# EAGLE library part BC-118 (library MCUs)
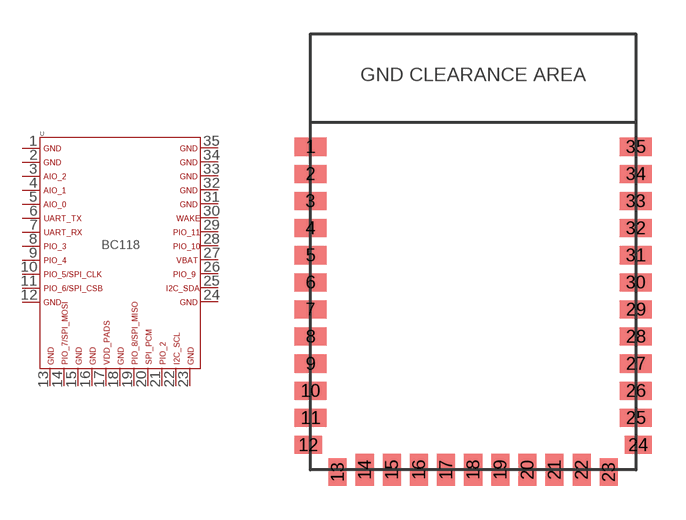
[diagram p0: symbol with the pads of BC-118; footprint BC-118]

Designator prefix U

## BC-118  [BC-118]
1  1  pas
2  2  pas
3  3  pas
4  4  pas
5  5  pas
6  6  pas
7  7  pas
8  8  pas
9  9  pas
10  10  pas
11  11  pas
12  12  pas
13  13  pas
14  14  pas
15  15  pas
16  16  pas
17  17  pas
18  18  pas
19  19  pas
20  20  pas
21  21  pas
22  22  pas
23  23  pas
24  24  pas
25  25  pas
26  26  pas
27  27  pas
28  28  pas
29  29  pas
30  30  pas
31  31  pas
32  32  pas
33  33  pas
34  34  pas
35  35  pas

## Footprint BC-118 (pad centres in mm)
smd 1.4 x 0.8: 1 -7.2,6.6; 2 -7.2,5.4; 3 -7.2,4.2; 4 -7.2,3; 5 -7.2,1.8; 6 -7.2,0.6; 7 -7.2,-0.6; 8 -7.2,-1.8; 9 -7.2,-3; 10 -7.2,-4.2; 11 -7.2,-5.4; 25 7.2,-5.4; 26 7.2,-4.2; 27 7.2,-3; 28 7.2,-1.8; 29 7.2,-0.6; 30 7.2,0.6; 31 7.2,1.8; 32 7.2,3; 33 7.2,4.2; 34 7.2,5.4; 35 7.2,6.6
smd 1.2 x 0.8: 12 -7.3,-6.6; 24 7.3,-6.6
smd 0.8 x 1.2: 13 -6,-7.8; 23 6,-7.8
smd 0.8 x 1.4: 14 -4.8,-7.7; 15 -3.6,-7.7; 16 -2.4,-7.7; 17 -1.2,-7.7; 18 0,-7.7; 19 1.2,-7.7; 20 2.4,-7.7; 21 3.6,-7.7; 22 4.8,-7.7